# EAGLE library part AMS_AS7341-DLGM (library Upverter Library)
Light to Frequency Ambient Light Sensor Digital-I2C-OUT 8-Pin OLGA T/R
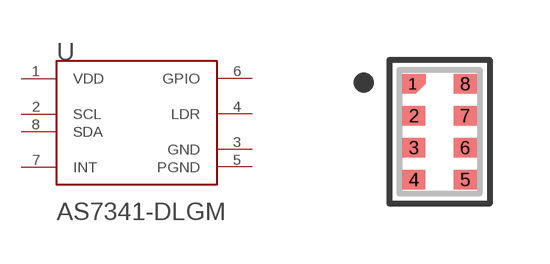
[diagram p0: symbol with the pads of AMS_AS7341-DLGM_0; footprint AMS_AS7341-DLGM_0]

Designator prefix U

## AMS_AS7341-DLGMAMS_AS7341-DLGM_0_0 (MF: ams; MPN: AS7341-DLGM; ambient_temperature_range_high: +70°C; ambient_temperature_range_low: -30°C; automotive: No; centroid_not_specified: No; datasheet: https://media.digikey.com/pdf/Data%20Sheets/Austriamicrosystems%20PDFs/AS7341_DS.pdf; device_class_L1: Sensors; device_class_L2: Optical Sensors; device_class_L3: unset; digikey_description: SENSOR AMBIENT LIGHT; digikey_part_number: AS7341-DLGMCT-ND; footprint_variant_name_0: Recommended_Land_Pattern; height: 1.1mm; lead_free: Yes; max_supply_voltage: 2V; mfg_package_ident: 0; mfg_package_ident_date: 0; mfg_package_ident_rev: 0; min_supply_voltage: 1.7V; mouser_description: AS7341 Series 11-Channel Spectral Color Ambient Light Sensor - OLGA-8; mouser_part_number: 985-AS7341-DLGM; operating_supply_current: 0.7-210uA; package: OLGA8; pin_0_0_4_inside_edge: clock; prefix: U; rohs: Yes; sensor_output: I2C; temperature_range_high: +70°C; temperature_range_low: -30°C; verification_version: 0.0.0.3)  [AMS_AS7341-DLGM_0]
1  VDD  pwr
2  SCL
3  GND  pwr
4  LDR  in
5  PGND  pwr
6  GPIO
7  INT  out
8  SDA

## Footprint AMS_AS7341-DLGM_0 (pad centres in mm)
Light to Frequency Ambient Light Sensor Digital-I2C-OUT 8-Pin OLGA T/R
smd 0.414 x 0.414: 1 -0.681,1.2
smd 0.575 x 0.488: 2 -0.638,0.4; 3 -0.638,-0.4; 4 -0.638,-1.2; 5 0.638,-1.2; 6 0.638,-0.4; 7 0.638,0.4; 8 0.638,1.2